# EAGLE library part ARDUINO_MEGA (library arduino)
El Arduino MEGA 2560 está diseñado para proyectos que requieren más líneas de E / S, más memoria de boceto y más RAM. Con 54 pines de E / S digitales, 16 entradas analógicas y un espacio más grande para su boceto, es la placa recomendada para impresoras 3D y proyectos de robótica. Microcontrolador: ATmega2560 Voltaje Operativo: 5V Voltaje de Entrada: 7-12V Voltaje de Entrada(límites): 6-20V Pines digitales de Entrada/Salida: 54 (de los cuales 15 proveen salida PWM) Pines análogos de entrada: 16 Corriente DC por cada Pin Entrada/Salida: 40 mA Corriente DC entregada en el Pin 3.3V: 50 mA Memoria Flash: 256 KB (8KB usados por el bootloader) SRAM: 8KB EEPROM: 4KB Clock Speed: 16 MHz
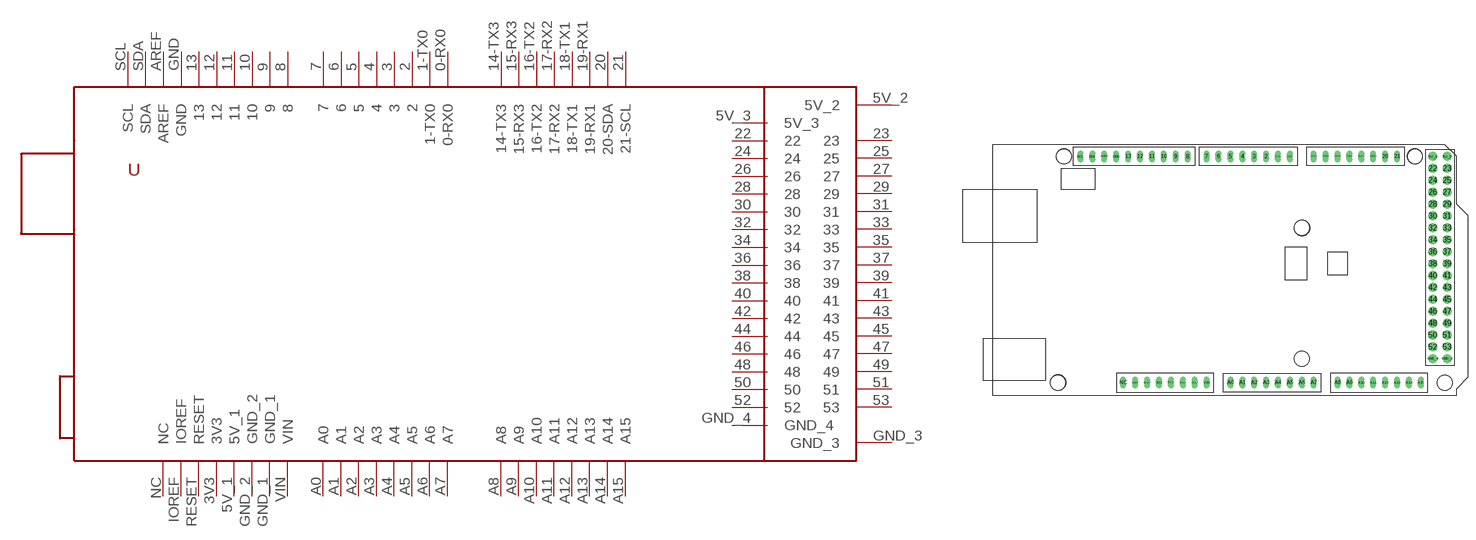
[diagram p0: symbol with the pads of ARDUINO-MEGA; footprint ARDUINO-MEGA]

Designator prefix -

## ARDUINO_MEGA  [ARDUINO-MEGA]
0-RX0  0-RX0
1-TX0  1-TX0
2  2
3  3
3V3  3V3
4  4
5  5
5V_1  5V_1
5V_2  5V_2
5V_3  5V_3
6  6
7  7
8  8
9  9
10  10
11  11
12  12
13  13
14-TX3  14-TX3
15-RX3  15-RX3
16-TX2  16-TX2
17-RX2  17-RX2
18-TX1  18-TX1
19-RX1  19-RX1
20  20-SDA
21  21-SCL
22  22
23  23
24  24
25  25
26  26
27  27
28  28
29  29
30  30
31  31
32  32
33  33
34  34
35  35
36  36
37  37
38  38
39  39
40  40
41  41
42  42
43  43
44  44
45  45
46  46
47  47
48  48
49  49
50  50
51  51
52  52
53  53
A0  A0
A1  A1
A2  A2
A3  A3
A4  A4
A5  A5
A6  A6
A7  A7
A8  A8
A9  A9
A10  A10
A11  A11
A12  A12
A13  A13
A14  A14
A15  A15
AREF  AREF
GND  GND
GND_1  GND_1
GND_2  GND_2
GND_3  GND_3
GND_4  GND_4
IOREF  IOREF
NC  NC
RESET  RESET
SCL  SCL
SDA  SDA
VIN  VIN

## Footprint ARDUINO-MEGA (pad centres in mm)
drill 0.6 pad 1.27 long: 0-RX0 14.224,25.4; 1-TX0 11.684,25.4; 2 9.144,25.4; 3 6.604,25.4; 3V3 -13.716,-22.86; 4 4.064,25.4; 5 1.524,25.4; 5V_1 -11.176,-22.86; 6 -1.016,25.4; 7 -3.556,25.4; 8 -7.62,25.4; 9 -10.16,25.4; 10 -12.7,25.4; 11 -15.24,25.4; 12 -17.78,25.4; 13 -20.32,25.4; 14-TX3 19.304,25.4; 15-RX3 21.844,25.4; 16-TX2 24.384,25.4; 17-RX2 26.924,25.4; 18-TX1 29.464,25.4; 19-RX1 32.004,25.4; 20 34.544,25.4; 21 37.084,25.4; A0 1.524,-22.86; A1 4.064,-22.86; A2 6.604,-22.86; A3 9.144,-22.86; A4 11.684,-22.86; A5 14.224,-22.86; A6 16.764,-22.86; A7 19.304,-22.86; A8 24.384,-22.86; A9 26.924,-22.86; A10 29.464,-22.86; A11 32.004,-22.86; A12 34.544,-22.86; A13 37.084,-22.86; A14 39.624,-22.86; A15 42.164,-22.86; AREF -25.4,25.4; GND -22.86,25.4; GND_1 -6.096,-22.86; GND_2 -8.636,-22.86; IOREF -18.796,-22.86; NC -21.336,-22.86; RESET -16.256,-22.86; SCL -30.48,25.4; SDA -27.94,25.4; VIN -3.556,-22.86
drill 0.65 pad 1.93: 5V_2 47.752,25.4; 5V_3 44.704,25.4; 22 44.704,22.86; 23 47.752,22.86; 24 44.704,20.32; 25 47.752,20.32; 26 44.704,17.78; 27 47.752,17.78; 28 44.704,15.24; 29 47.752,15.24; 30 44.704,12.7; 31 47.752,12.7; 32 44.704,10.16; 33 47.752,10.16; 34 44.704,7.62; 35 47.752,7.62; 36 44.704,5.08; 37 47.752,5.08; 38 44.704,2.54; 39 47.752,2.54; 40 44.704,0; 41 47.752,0; 42 44.704,-2.54; 43 47.752,-2.54; 44 44.704,-5.08; 45 47.752,-5.08; 46 44.704,-7.62; 47 47.752,-7.62; 48 44.704,-10.16; 49 47.752,-10.16; 50 44.704,-12.7; 51 47.752,-12.7; 52 44.704,-15.24; 53 47.752,-15.24; GND_3 47.752,-17.78; GND_4 44.704,-17.78
hole 3.2 at 47.244,-22.86
hole 3.2 at -34.036,25.4
hole 3.2 at 40.894,25.4
hole 3.2 at -35.306,-22.86
hole 3.2 at 16.764,10.16
hole 3.2 at 16.764,-17.78